# Altium footprint library Integrated_Library_PCBLib.PcbLib: 2 footprints
Each footprint in its own frame and in the unit in brackets; x right, y up, seen from the top. Pads: shape width x height; smd on the part's side, far side on the other; paste and mask are expansions set on the pad; w line width, h text height; cw(c..) or ccw(c..) is an arc to the next point about the centre after c.
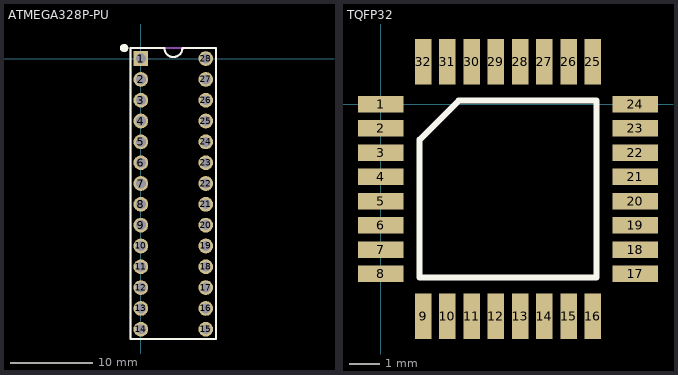
[diagram p0: the footprints below, top view; thin cyan lines are the x and y axes]

## ATMEGA328P-PU [mm]
pads (28):
  rect 1.8x1.8 hole 1.2: 1(0,0)
  round 1.8 hole 1.2: 2(0,-2.54) 3(0,-5.08) 4(0,-7.62) 5(0,-10.16) 6(0,-12.7) 7(0,-15.24) 8(0,-17.78) 9(0,-20.32) 10(0,-22.86) 11(0,-25.4) 12(0,-27.94) 13(0,-30.48) 14(0,-33.02) 15(7.92,-33.02) 16(7.92,-30.48) 17(7.92,-27.94) 18(7.92,-25.4) 19(7.92,-22.86) 20(7.92,-20.32) 21(7.92,-17.78) 22(7.92,-15.24) 23(7.92,-12.7) 24(7.92,-10.16) 25(7.92,-7.62) 26(7.92,-5.08) 27(7.92,-2.54) 28(7.92,0)
Top Overlay:
  circle w0.5: c-2.04,1.29 r0.254
  lines w0.254: -1.24,-34.21 9.16,-34.21 9.16,1.29 5.06,1.29 cw(c3.96,1.29) 2.86,1.29 -1.24,1.29 -1.24,-34.21
Mechanical 15:
  circle w0.6: c-0.04,-0.01 r0.283
  lines w0.254: -1.24,-34.21 -1.24,1.29 9.16,1.29 9.16,-34.21 -1.24,-34.21
  text ".Designator" at 4.498,-18.456 h1.52
3D body "ATMEGA328P-PU--3DModel-STEP-56544.STEP": height 4.57, standoff -3.43, extent 0.01,-33.845 7.91,0.826

## TQFP32 [mm]
pads (32):
  rect 1.5x0.55 smd: 1(0,0) 2(0,-0.8) 3(0,-1.6) 4(0,-2.4) 5(0,-3.2) 6(0,-4) 7(0,-4.8) 8(0,-5.6) 17(8.4,-5.6) 18(8.4,-4.8) 19(8.4,-4) 20(8.4,-3.2) 21(8.4,-2.4) 22(8.4,-1.6) 23(8.4,-0.8) 24(8.4,0)
  rect 0.55x1.5 smd: 9(1.4,-7) 10(2.2,-7) 11(3,-7) 12(3.8,-7) 13(4.6,-7) 14(5.4,-7) 15(6.2,-7) 16(7,-7) 25(7,1.4) 26(6.2,1.4) 27(5.4,1.4) 28(4.6,1.4) 29(3.8,1.4) 30(3,1.4) 31(2.2,1.4) 32(1.4,1.4)
Top Overlay:
  lines w0.2: 1.285,-5.715 1.285,-1.17 2.57,0.115 7.115,0.115 7.115,-5.715 1.285,-5.715